# Altium footprint library Connector_Hirose.PcbLib: 136 footprints (part 7 of 9)
Each footprint in its own frame and in the unit in brackets; x right, y up, seen from the top. Pads: shape width x height; smd on the part's side, far side on the other; paste and mask are expansions set on the pad; w line width, h text height; cw(c..) or ccw(c..) is an arc to the next point about the centre after c.
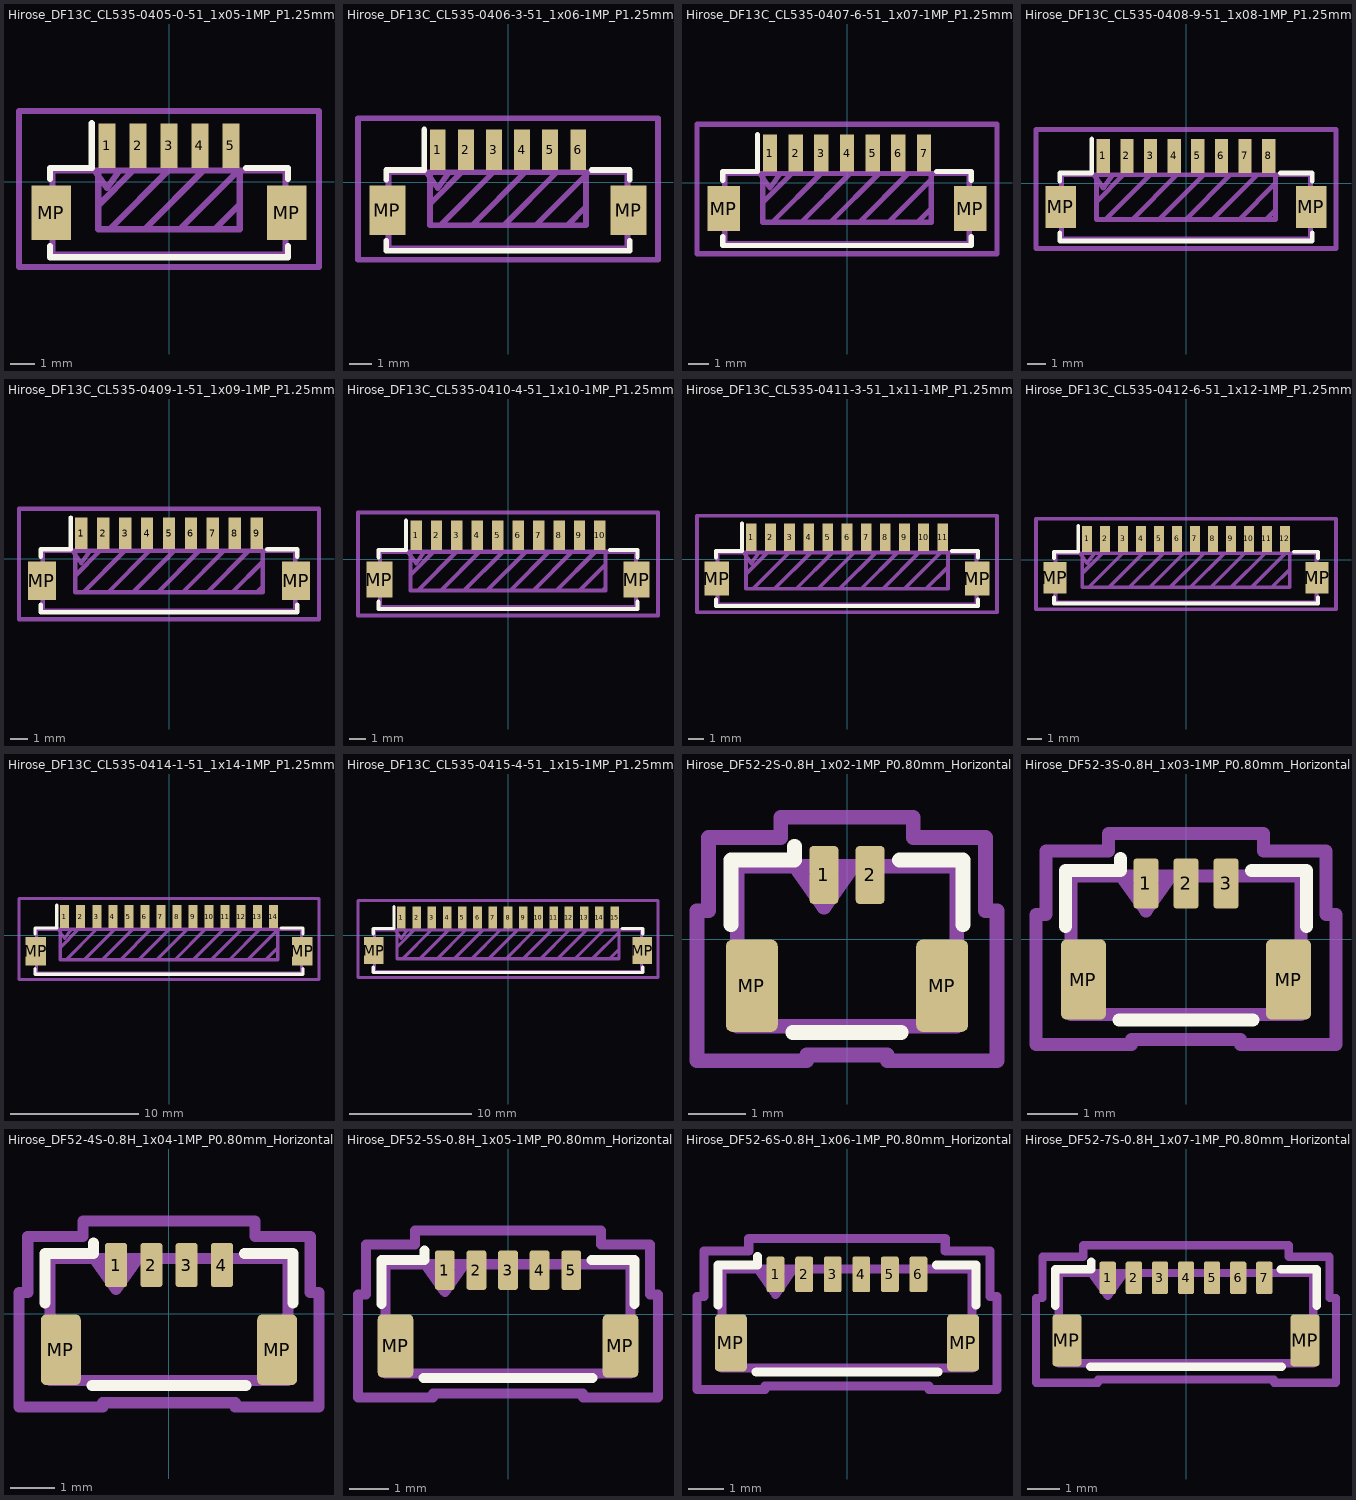
[diagram p6: the footprints below, top view; thin cyan lines are the x and y axes]

## Hirose_DF13C_CL535-0405-0-51_1x05-1MP_P1.25mm_Vertical [mm]
pads (7):
  rect 0.7x1.8 smd: 1(-2.5,1.45) 2(-1.25,1.45) 3(0,1.45) 4(1.25,1.45) 5(2.5,1.45)
  rect 1.6x2.2 smd: MP(-4.75,-1.25) MP(4.75,-1.25)
F.SilkS:
  lines w0.254: -4.8,-2.61 -4.8,-3.05 4.8,-3.05 4.8,-2.61 ; -4.8,0.11 -4.8,0.55 -3.11,0.55 -3.11,2.35 ; 3.11,0.55 4.8,0.55 4.8,0.11
Top Assembly:
  lines w0.254: -3,0.45 -2.5,-0.257 -2,0.45 ; -4.7,-2.95 4.7,-2.95 4.7,0.45 -4.7,0.45 -4.7,-2.95
  text "'.Designator'" at -4.047,-3.09 h1
Top Courtyard:
  lines w0.254: -6.05,-3.45 6.05,-3.45 6.05,2.85 -6.05,2.85 -6.05,-3.45
Top Designator:
  text ".Designator" at -7.618,-0.808 h1.52
Dwgs.User:
  lines w0.254: -2.85,-0.964 -1.436,0.45 ; -2.392,-1.92 -0.022,0.45 ; -0.977,-1.92 1.393,0.45 ; 0.437,-1.92 2.807,0.45 ; 1.851,-1.92 2.85,-0.921 ; -2.85,-1.92 2.85,-1.92 2.85,0.45 -2.85,0.45 -2.85,-1.92
Cmts.User:
  text "KEEPOUT" at -2.534,-1.261 h0.81

## Hirose_DF13C_CL535-0406-3-51_1x06-1MP_P1.25mm_Vertical [mm]
pads (8):
  rect 0.7x1.8 smd: 1(-3.125,1.45) 2(-1.875,1.45) 3(-0.625,1.45) 4(0.625,1.45) 5(1.875,1.45) 6(3.125,1.45)
  rect 1.6x2.2 smd: MP(-5.375,-1.25) MP(5.375,-1.25)
F.SilkS:
  lines w0.254: -5.425,-2.61 -5.425,-3.05 5.425,-3.05 5.425,-2.61 ; -5.425,0.11 -5.425,0.55 -3.735,0.55 -3.735,2.35 ; 3.735,0.55 5.425,0.55 5.425,0.11
Top Assembly:
  lines w0.254: -3.625,0.45 -3.125,-0.257 -2.625,0.45 ; -5.325,-2.95 5.325,-2.95 5.325,0.45 -5.325,0.45 -5.325,-2.95
  text "'.Designator'" at -4.047,-3.09 h1
Top Courtyard:
  lines w0.254: -6.68,-3.45 6.68,-3.45 6.68,2.85 -6.68,2.85 -6.68,-3.45
Top Designator:
  text ".Designator" at -7.618,-0.808 h1.52
Dwgs.User:
  lines w0.254: -3.475,-0.964 -2.061,0.45 ; -3.017,-1.92 -0.647,0.45 ; -1.602,-1.92 0.768,0.45 ; -0.188,-1.92 2.182,0.45 ; 1.226,-1.92 3.475,0.329 ; 2.64,-1.92 3.475,-1.085 ; -3.475,-1.92 3.475,-1.92 3.475,0.45 -3.475,0.45 -3.475,-1.92
Cmts.User:
  text "KEEPOUT" at -3.097,-1.378 h0.99

## Hirose_DF13C_CL535-0407-6-51_1x07-1MP_P1.25mm_Vertical [mm]
pads (9):
  rect 0.7x1.8 smd: 1(-3.75,1.45) 2(-2.5,1.45) 3(-1.25,1.45) 4(0,1.45) 5(1.25,1.45) 6(2.5,1.45) 7(3.75,1.45)
  rect 1.6x2.2 smd: MP(-6,-1.25) MP(6,-1.25)
F.SilkS:
  lines w0.254: -6.05,-2.61 -6.05,-3.05 6.05,-3.05 6.05,-2.61 ; -6.05,0.11 -6.05,0.55 -4.36,0.55 -4.36,2.35 ; 4.36,0.55 6.05,0.55 6.05,0.11
Top Assembly:
  lines w0.254: -4.25,0.45 -3.75,-0.257 -3.25,0.45 ; -5.95,-2.95 5.95,-2.95 5.95,0.45 -5.95,0.45 -5.95,-2.95
  text "'.Designator'" at -4.047,-3.09 h1
Top Courtyard:
  lines w0.254: -7.3,-3.45 7.3,-3.45 7.3,2.85 -7.3,2.85 -7.3,-3.45
Top Designator:
  text ".Designator" at -7.618,-0.808 h1.52
Dwgs.User:
  lines w0.254: -4.1,-0.964 -2.686,0.45 ; -3.642,-1.92 -1.272,0.45 ; -2.227,-1.92 0.143,0.45 ; -0.813,-1.92 1.557,0.45 ; 0.601,-1.92 2.971,0.45 ; 2.015,-1.92 4.1,0.165 ; 3.429,-1.92 4.1,-1.249 ; -4.1,-1.92 4.1,-1.92 4.1,0.45 -4.1,0.45 -4.1,-1.92
Cmts.User:
  text "KEEPOUT" at -3.128,-1.385 h1

## Hirose_DF13C_CL535-0408-9-51_1x08-1MP_P1.25mm_Vertical [mm]
pads (10):
  rect 0.7x1.8 smd: 1(-4.375,1.45) 2(-3.125,1.45) 3(-1.875,1.45) 4(-0.625,1.45) 5(0.625,1.45) 6(1.875,1.45) 7(3.125,1.45) 8(4.375,1.45)
  rect 1.6x2.2 smd: MP(-6.625,-1.25) MP(6.625,-1.25)
F.SilkS:
  lines w0.254: -6.675,-2.61 -6.675,-3.05 6.675,-3.05 6.675,-2.61 ; -6.675,0.11 -6.675,0.55 -4.985,0.55 -4.985,2.35 ; 4.985,0.55 6.675,0.55 6.675,0.11
Top Assembly:
  lines w0.254: -4.875,0.45 -4.375,-0.257 -3.875,0.45 ; -6.575,-2.95 6.575,-2.95 6.575,0.45 -6.575,0.45 -6.575,-2.95
  text "'.Designator'" at -4.047,-3.09 h1
Top Courtyard:
  lines w0.254: -7.93,-3.45 7.93,-3.45 7.93,2.85 -7.93,2.85 -7.93,-3.45
Top Designator:
  text ".Designator" at -7.618,-0.808 h1.52
Dwgs.User:
  lines w0.254: -4.725,-0.964 -3.311,0.45 ; -4.267,-1.92 -1.897,0.45 ; -2.852,-1.92 -0.482,0.45 ; -1.438,-1.92 0.932,0.45 ; -0.024,-1.92 2.346,0.45 ; 1.39,-1.92 3.76,0.45 ; 2.804,-1.92 4.725,0.001 ; 4.219,-1.92 4.725,-1.414 ; -4.725,-1.92 4.725,-1.92 4.725,0.45 -4.725,0.45 -4.725,-1.92
Cmts.User:
  text "KEEPOUT" at -3.128,-1.385 h1

## Hirose_DF13C_CL535-0409-1-51_1x09-1MP_P1.25mm_Vertical [mm]
pads (11):
  rect 0.7x1.8 smd: 1(-5,1.45) 2(-3.75,1.45) 3(-2.5,1.45) 4(-1.25,1.45) 5(0,1.45) 6(1.25,1.45) 7(2.5,1.45) 8(3.75,1.45) 9(5,1.45)
  rect 1.6x2.2 smd: MP(-7.25,-1.25) MP(7.25,-1.25)
F.SilkS:
  lines w0.254: -7.3,-2.61 -7.3,-3.05 7.3,-3.05 7.3,-2.61 ; -7.3,0.11 -7.3,0.55 -5.61,0.55 -5.61,2.35 ; 5.61,0.55 7.3,0.55 7.3,0.11
Top Assembly:
  lines w0.254: -5.5,0.45 -5,-0.257 -4.5,0.45 ; -7.2,-2.95 7.2,-2.95 7.2,0.45 -7.2,0.45 -7.2,-2.95
  text "'.Designator'" at -4.047,-3.09 h1
Top Courtyard:
  lines w0.254: -8.55,-3.45 8.55,-3.45 8.55,2.85 -8.55,2.85 -8.55,-3.45
Top Designator:
  text ".Designator" at -7.618,-0.808 h1.52
Dwgs.User:
  lines w0.254: -5.35,-0.964 -3.936,0.45 ; -4.892,-1.92 -2.522,0.45 ; -3.477,-1.92 -1.107,0.45 ; -2.063,-1.92 0.307,0.45 ; -0.649,-1.92 1.721,0.45 ; 0.765,-1.92 3.135,0.45 ; 2.179,-1.92 4.549,0.45 ; 3.594,-1.92 5.35,-0.164 ; 5.008,-1.92 5.35,-1.578 ; -5.35,-1.92 5.35,-1.92 5.35,0.45 -5.35,0.45 -5.35,-1.92
Cmts.User:
  text "KEEPOUT" at -3.128,-1.385 h1

## Hirose_DF13C_CL535-0410-4-51_1x10-1MP_P1.25mm_Vertical [mm]
pads (12):
  rect 0.7x1.8 smd: 1(-5.625,1.45) 2(-4.375,1.45) 3(-3.125,1.45) 4(-1.875,1.45) 5(-0.625,1.45) 6(0.625,1.45) 7(1.875,1.45) 8(3.125,1.45) 9(4.375,1.45) 10(5.625,1.45)
  rect 1.6x2.2 smd: MP(-7.875,-1.25) MP(7.875,-1.25)
F.SilkS:
  lines w0.254: -7.925,-2.61 -7.925,-3.05 7.925,-3.05 7.925,-2.61 ; -7.925,0.11 -7.925,0.55 -6.235,0.55 -6.235,2.35 ; 6.235,0.55 7.925,0.55 7.925,0.11
Top Assembly:
  lines w0.254: -6.125,0.45 -5.625,-0.257 -5.125,0.45 ; -7.825,-2.95 7.825,-2.95 7.825,0.45 -7.825,0.45 -7.825,-2.95
  text "'.Designator'" at -4.047,-3.09 h1
Top Courtyard:
  lines w0.254: -9.18,-3.45 9.18,-3.45 9.18,2.85 -9.18,2.85 -9.18,-3.45
Top Designator:
  text ".Designator" at -7.618,-0.808 h1.52
Dwgs.User:
  lines w0.254: -5.975,-0.964 -4.561,0.45 ; -5.517,-1.92 -3.147,0.45 ; -4.102,-1.92 -1.732,0.45 ; -2.688,-1.92 -0.318,0.45 ; -1.274,-1.92 1.096,0.45 ; 0.14,-1.92 2.51,0.45 ; 1.554,-1.92 3.924,0.45 ; 2.969,-1.92 5.339,0.45 ; 4.383,-1.92 5.975,-0.328 ; 5.797,-1.92 5.975,-1.742 ; -5.975,-1.92 5.975,-1.92 5.975,0.45 -5.975,0.45 -5.975,-1.92
Cmts.User:
  text "KEEPOUT" at -3.128,-1.385 h1

## Hirose_DF13C_CL535-0411-3-51_1x11-1MP_P1.25mm_Vertical [mm]
pads (13):
  rect 0.7x1.8 smd: 1(-6.25,1.45) 2(-5,1.45) 3(-3.75,1.45) 4(-2.5,1.45) 5(-1.25,1.45) 6(0,1.45) 7(1.25,1.45) 8(2.5,1.45) 9(3.75,1.45) 10(5,1.45) 11(6.25,1.45)
  rect 1.6x2.2 smd: MP(-8.5,-1.25) MP(8.5,-1.25)
F.SilkS:
  lines w0.254: -8.55,-2.61 -8.55,-3.05 8.55,-3.05 8.55,-2.61 ; -8.55,0.11 -8.55,0.55 -6.86,0.55 -6.86,2.35 ; 6.86,0.55 8.55,0.55 8.55,0.11
Top Assembly:
  lines w0.254: -6.75,0.45 -6.25,-0.257 -5.75,0.45 ; -8.45,-2.95 8.45,-2.95 8.45,0.45 -8.45,0.45 -8.45,-2.95
  text "'.Designator'" at -4.047,-3.09 h1
Top Courtyard:
  lines w0.254: -9.8,-3.45 9.8,-3.45 9.8,2.85 -9.8,2.85 -9.8,-3.45
Top Designator:
  text ".Designator" at -7.618,-0.808 h1.52
Dwgs.User:
  lines w0.254: -6.6,-0.964 -5.186,0.45 ; -6.142,-1.92 -3.772,0.45 ; -4.727,-1.92 -2.357,0.45 ; -3.313,-1.92 -0.943,0.45 ; -1.899,-1.92 0.471,0.45 ; -0.485,-1.92 1.885,0.45 ; 0.929,-1.92 3.299,0.45 ; 2.344,-1.92 4.714,0.45 ; 3.758,-1.92 6.128,0.45 ; 5.172,-1.92 6.6,-0.492 ; 6.586,-1.92 6.6,-1.906 ; -6.6,-1.92 6.6,-1.92 6.6,0.45 -6.6,0.45 -6.6,-1.92
Cmts.User:
  text "KEEPOUT" at -3.128,-1.385 h1

## Hirose_DF13C_CL535-0412-6-51_1x12-1MP_P1.25mm_Vertical [mm]
pads (14):
  rect 0.7x1.8 smd: 1(-6.875,1.45) 2(-5.625,1.45) 3(-4.375,1.45) 4(-3.125,1.45) 5(-1.875,1.45) 6(-0.625,1.45) 7(0.625,1.45) 8(1.875,1.45) 9(3.125,1.45) 10(4.375,1.45) 11(5.625,1.45) 12(6.875,1.45)
  rect 1.6x2.2 smd: MP(-9.125,-1.25) MP(9.125,-1.25)
F.SilkS:
  lines w0.254: -9.175,-2.61 -9.175,-3.05 9.175,-3.05 9.175,-2.61 ; -9.175,0.11 -9.175,0.55 -7.485,0.55 -7.485,2.35 ; 7.485,0.55 9.175,0.55 9.175,0.11
Top Assembly:
  lines w0.254: -7.375,0.45 -6.875,-0.257 -6.375,0.45 ; -9.075,-2.95 9.075,-2.95 9.075,0.45 -9.075,0.45 -9.075,-2.95
  text "'.Designator'" at -4.047,-3.09 h1
Top Courtyard:
  lines w0.254: -10.43,-3.45 10.43,-3.45 10.43,2.85 -10.43,2.85 -10.43,-3.45
Top Designator:
  text ".Designator" at -7.618,-0.808 h1.52
Dwgs.User:
  lines w0.254: -7.225,-0.964 -5.811,0.45 ; -6.767,-1.92 -4.397,0.45 ; -5.352,-1.92 -2.982,0.45 ; -3.938,-1.92 -1.568,0.45 ; -2.524,-1.92 -0.154,0.45 ; -1.11,-1.92 1.26,0.45 ; 0.304,-1.92 2.674,0.45 ; 1.719,-1.92 4.089,0.45 ; 3.133,-1.92 5.503,0.45 ; 4.547,-1.92 6.917,0.45 ; 5.961,-1.92 7.225,-0.656 ; -7.225,-1.92 7.225,-1.92 7.225,0.45 -7.225,0.45 -7.225,-1.92
Cmts.User:
  text "KEEPOUT" at -3.128,-1.385 h1

## Hirose_DF13C_CL535-0414-1-51_1x14-1MP_P1.25mm_Vertical [mm]
pads (16):
  rect 0.7x1.8 smd: 1(-8.125,1.45) 2(-6.875,1.45) 3(-5.625,1.45) 4(-4.375,1.45) 5(-3.125,1.45) 6(-1.875,1.45) 7(-0.625,1.45) 8(0.625,1.45) 9(1.875,1.45) 10(3.125,1.45) 11(4.375,1.45) 12(5.625,1.45) 13(6.875,1.45) 14(8.125,1.45)
  rect 1.6x2.2 smd: MP(-10.375,-1.25) MP(10.375,-1.25)
F.SilkS:
  lines w0.254: -10.425,-2.61 -10.425,-3.05 10.425,-3.05 10.425,-2.61 ; -10.425,0.11 -10.425,0.55 -8.735,0.55 -8.735,2.35 ; 8.735,0.55 10.425,0.55 10.425,0.11
Top Assembly:
  lines w0.254: -8.625,0.45 -8.125,-0.257 -7.625,0.45 ; -10.325,-2.95 10.325,-2.95 10.325,0.45 -10.325,0.45 -10.325,-2.95
  text "'.Designator'" at -4.047,-3.09 h1
Top Courtyard:
  lines w0.254: -11.68,-3.45 11.68,-3.45 11.68,2.85 -11.68,2.85 -11.68,-3.45
Top Designator:
  text ".Designator" at -7.618,-0.808 h1.52
Dwgs.User:
  lines w0.254: -8.475,-0.964 -7.061,0.45 ; -8.017,-1.92 -5.647,0.45 ; -6.602,-1.92 -4.232,0.45 ; -5.188,-1.92 -2.818,0.45 ; -3.774,-1.92 -1.404,0.45 ; -2.36,-1.92 0.01,0.45 ; -0.946,-1.92 1.424,0.45 ; 0.469,-1.92 2.839,0.45 ; 1.883,-1.92 4.253,0.45 ; 3.297,-1.92 5.667,0.45 ; 4.711,-1.92 7.081,0.45 ; 6.126,-1.92 8.475,0.429 ; 7.54,-1.92 8.475,-0.985 ; -8.475,-1.92 8.475,-1.92 8.475,0.45 -8.475,0.45 -8.475,-1.92
Cmts.User:
  text "KEEPOUT" at -3.128,-1.385 h1

## Hirose_DF13C_CL535-0415-4-51_1x15-1MP_P1.25mm_Vertical [mm]
pads (17):
  rect 0.7x1.8 smd: 1(-8.75,1.45) 2(-7.5,1.45) 3(-6.25,1.45) 4(-5,1.45) 5(-3.75,1.45) 6(-2.5,1.45) 7(-1.25,1.45) 8(0,1.45) 9(1.25,1.45) 10(2.5,1.45) 11(3.75,1.45) 12(5,1.45) 13(6.25,1.45) 14(7.5,1.45) 15(8.75,1.45)
  rect 1.6x2.2 smd: MP(-11,-1.25) MP(11,-1.25)
F.SilkS:
  lines w0.254: -11.05,-2.61 -11.05,-3.05 11.05,-3.05 11.05,-2.61 ; -11.05,0.11 -11.05,0.55 -9.36,0.55 -9.36,2.35 ; 9.36,0.55 11.05,0.55 11.05,0.11
Top Assembly:
  lines w0.254: -9.25,0.45 -8.75,-0.257 -8.25,0.45 ; -10.95,-2.95 10.95,-2.95 10.95,0.45 -10.95,0.45 -10.95,-2.95
  text "'.Designator'" at -4.047,-3.09 h1
Top Courtyard:
  lines w0.254: -12.3,-3.45 12.3,-3.45 12.3,2.85 -12.3,2.85 -12.3,-3.45
Top Designator:
  text ".Designator" at -7.618,-0.808 h1.52
Dwgs.User:
  lines w0.254: -9.1,-0.964 -7.686,0.45 ; -8.642,-1.92 -6.272,0.45 ; -7.227,-1.92 -4.857,0.45 ; -5.813,-1.92 -3.443,0.45 ; -4.399,-1.92 -2.029,0.45 ; -2.985,-1.92 -0.615,0.45 ; -1.571,-1.92 0.799,0.45 ; -0.156,-1.92 2.214,0.45 ; 1.258,-1.92 3.628,0.45 ; 2.672,-1.92 5.042,0.45 ; 4.086,-1.92 6.456,0.45 ; 5.501,-1.92 7.871,0.45 ; 6.915,-1.92 9.1,0.265 ; 8.329,-1.92 9.1,-1.149 ; -9.1,-1.92 9.1,-1.92 9.1,0.45 -9.1,0.45 -9.1,-1.92
Cmts.User:
  text "KEEPOUT" at -3.128,-1.385 h1

## Hirose_DF52-2S-0.8H_1x02-1MP_P0.80mm_Horizontal [mm]
pads (4):
  rrect25% 0.5x1 smd: 1(-0.4,1.11) 2(0.4,1.11)
  rrect25% 0.9x1.6 smd: MP(-1.65,-0.81) MP(1.65,-0.81)
F.SilkS:
  lines w0.254: -2.01,0.25 -2.01,1.37 -0.91,1.37 -0.91,1.61 ; -0.94,-1.62 0.94,-1.62 ; 0.91,1.37 2.01,1.37 2.01,0.25
Top Assembly:
  lines w0.254: -0.9,1.26 -0.4,0.553 0.1,1.26 ; -1.9,-1.51 1.9,-1.51 1.9,1.26 -1.9,1.26 -1.9,-1.51
  text "'.Designator'" at -3.842,-1.636 h0.95
Top Courtyard:
  lines w0.254: -2.6,-2.11 -0.7,-2.11 -0.7,-2.01 0.7,-2.01 0.7,-2.11 2.6,-2.11 2.6,0.49 2.4,0.49 2.4,1.76 1.15,1.76 1.15,2.11 -1.15,2.11 -1.15,1.76 -2.4,1.76 -2.4,0.49 -2.6,0.49 -2.6,-2.11
Top Designator:
  text ".Designator" at -7.758,-0.508 h1.52

## Hirose_DF52-3S-0.8H_1x03-1MP_P0.80mm_Horizontal [mm]
pads (5):
  rrect25% 0.5x1 smd: 1(-0.8,1.11) 2(0,1.11) 3(0.8,1.11)
  rrect25% 0.9x1.6 smd: MP(-2.05,-0.81) MP(2.05,-0.81)
F.SilkS:
  lines w0.254: -2.41,0.25 -2.41,1.37 -1.31,1.37 -1.31,1.61 ; -1.34,-1.62 1.34,-1.62 ; 1.31,1.37 2.41,1.37 2.41,0.25
Top Assembly:
  lines w0.254: -1.3,1.26 -0.8,0.553 -0.3,1.26 ; -2.3,-1.51 2.3,-1.51 2.3,1.26 -2.3,1.26 -2.3,-1.51
  text "'.Designator'" at -4.047,-1.65 h1
Top Courtyard:
  lines w0.254: -3,-2.11 -1.09,-2.11 -1.09,-2.01 1.09,-2.01 1.09,-2.11 3,-2.11 3,0.49 2.8,0.49 2.8,1.76 1.55,1.76 1.55,2.11 -1.55,2.11 -1.55,1.76 -2.8,1.76 -2.8,0.49 -3,0.49 -3,-2.11
Top Designator:
  text ".Designator" at -7.768,-0.508 h1.52

## Hirose_DF52-4S-0.8H_1x04-1MP_P0.80mm_Horizontal [mm]
pads (6):
  rrect25% 0.5x1 smd: 1(-1.2,1.11) 2(-0.4,1.11) 3(0.4,1.11) 4(1.2,1.11)
  rrect25% 0.9x1.6 smd: MP(-2.45,-0.81) MP(2.45,-0.81)
F.SilkS:
  lines w0.254: -2.81,0.25 -2.81,1.37 -1.71,1.37 -1.71,1.61 ; -1.74,-1.62 1.74,-1.62 ; 1.71,1.37 2.81,1.37 2.81,0.25
Top Assembly:
  lines w0.254: -1.7,1.26 -1.2,0.553 -0.7,1.26 ; -2.7,-1.51 2.7,-1.51 2.7,1.26 -2.7,1.26 -2.7,-1.51
  text "'.Designator'" at -4.047,-1.65 h1
Top Courtyard:
  lines w0.254: -3.4,-2.11 -1.5,-2.11 -1.5,-2.01 1.5,-2.01 1.5,-2.11 3.4,-2.11 3.4,0.49 3.2,0.49 3.2,1.76 1.95,1.76 1.95,2.11 -1.95,2.11 -1.95,1.76 -3.2,1.76 -3.2,0.49 -3.4,0.49 -3.4,-2.11
Top Designator:
  text ".Designator" at -7.768,-0.508 h1.52

## Hirose_DF52-5S-0.8H_1x05-1MP_P0.80mm_Horizontal [mm]
pads (7):
  rrect25% 0.5x1 smd: 1(-1.6,1.11) 2(-0.8,1.11) 3(0,1.11) 4(0.8,1.11) 5(1.6,1.11)
  rrect25% 0.9x1.6 smd: MP(-2.85,-0.81) MP(2.85,-0.81)
F.SilkS:
  lines w0.254: -3.21,0.25 -3.21,1.37 -2.11,1.37 -2.11,1.61 ; -2.14,-1.62 2.14,-1.62 ; 2.11,1.37 3.21,1.37 3.21,0.25
Top Assembly:
  lines w0.254: -2.1,1.26 -1.6,0.553 -1.1,1.26 ; -3.1,-1.51 3.1,-1.51 3.1,1.26 -3.1,1.26 -3.1,-1.51
  text "'.Designator'" at -4.047,-1.65 h1
Top Courtyard:
  lines w0.254: -3.8,-2.11 -1.9,-2.11 -1.9,-2.01 1.9,-2.01 1.9,-2.11 3.8,-2.11 3.8,0.49 3.6,0.49 3.6,1.76 2.35,1.76 2.35,2.11 -2.35,2.11 -2.35,1.76 -3.6,1.76 -3.6,0.49 -3.8,0.49 -3.8,-2.11
Top Designator:
  text ".Designator" at -7.752,-0.508 h1.52

## Hirose_DF52-6S-0.8H_1x06-1MP_P0.80mm_Horizontal [mm]
pads (8):
  rrect25% 0.5x1 smd: 1(-2,1.11) 2(-1.2,1.11) 3(-0.4,1.11) 4(0.4,1.11) 5(1.2,1.11) 6(2,1.11)
  rrect25% 0.9x1.6 smd: MP(-3.25,-0.81) MP(3.25,-0.81)
F.SilkS:
  lines w0.254: -3.61,0.25 -3.61,1.37 -2.51,1.37 -2.51,1.61 ; -2.54,-1.62 2.54,-1.62 ; 2.51,1.37 3.61,1.37 3.61,0.25
Top Assembly:
  lines w0.254: -2.5,1.26 -2,0.553 -1.5,1.26 ; -3.5,-1.51 3.5,-1.51 3.5,1.26 -3.5,1.26 -3.5,-1.51
  text "'.Designator'" at -4.047,-1.65 h1
Top Courtyard:
  lines w0.254: -4.2,-2.11 -2.3,-2.11 -2.3,-2.01 2.3,-2.01 2.3,-2.11 4.2,-2.11 4.2,0.49 4,0.49 4,1.76 2.75,1.76 2.75,2.11 -2.75,2.11 -2.75,1.76 -4,1.76 -4,0.49 -4.2,0.49 -4.2,-2.11
Top Designator:
  text ".Designator" at -7.618,-0.508 h1.52

## Hirose_DF52-7S-0.8H_1x07-1MP_P0.80mm_Horizontal [mm]
pads (9):
  rrect25% 0.5x1 smd: 1(-2.4,1.11) 2(-1.6,1.11) 3(-0.8,1.11) 4(0,1.11) 5(0.8,1.11) 6(1.6,1.11) 7(2.4,1.11)
  rrect25% 0.9x1.6 smd: MP(-3.65,-0.81) MP(3.65,-0.81)
F.SilkS:
  lines w0.254: -4.01,0.25 -4.01,1.37 -2.91,1.37 -2.91,1.61 ; -2.94,-1.62 2.94,-1.62 ; 2.91,1.37 4.01,1.37 4.01,0.25
Top Assembly:
  lines w0.254: -2.9,1.26 -2.4,0.553 -1.9,1.26 ; -3.9,-1.51 3.9,-1.51 3.9,1.26 -3.9,1.26 -3.9,-1.51
  text "'.Designator'" at -4.047,-1.65 h1
Top Courtyard:
  lines w0.254: -4.6,-2.11 -2.7,-2.11 -2.7,-2.01 2.7,-2.01 2.7,-2.11 4.6,-2.11 4.6,0.49 4.4,0.49 4.4,1.76 3.15,1.76 3.15,2.11 -3.15,2.11 -3.15,1.76 -4.4,1.76 -4.4,0.49 -4.6,0.49 -4.6,-2.11
Top Designator:
  text ".Designator" at -7.618,-0.508 h1.52